# EAGLE library part DISP_MATRIX_8X8 (library dp_devices)
8x8 LED Matrix Mfr no: LD788BS-SS22 LD788BS-SS22 <http://www.jameco.com/webapp/wcs/stores/servlet/Product_10001_10001_2132349_-1>
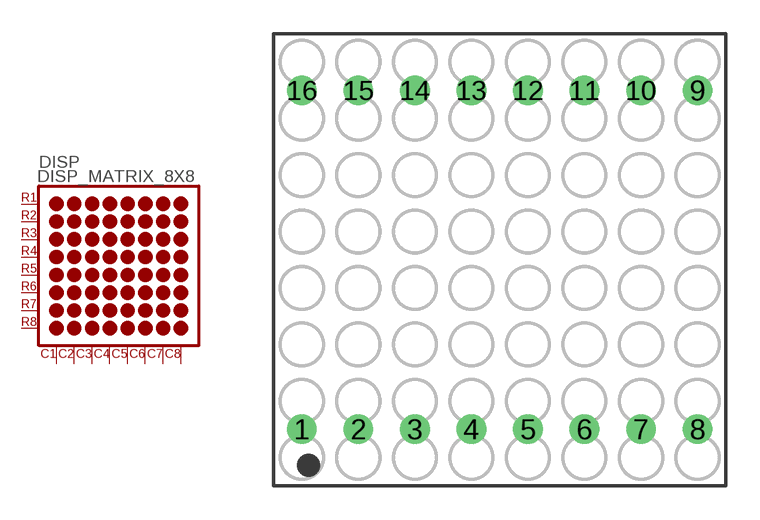
[diagram p129: symbol with the pads of DISP_8X8_MATRIX_2020; footprint DISP_8X8_MATRIX_2020]

Designator prefix DISP

## DISP_MATRIX_8X8  [DISP_8X8_MATRIX_2020]
1  R5
2  R7
3  C2
4  C3
5  R8
6  C5
7  R6
8  R3
9  R1
10  C4
11  C6
12  R4
13  C1
14  R2
15  C7
16  C8

## Footprint DISP_8X8_MATRIX_2020 (pad centres in mm)
Dimension: 20x20 mm
drill 0.8 round: 1 -8.75,-7.5; 2 -6.25,-7.5; 3 -3.75,-7.5; 4 -1.25,-7.5; 5 1.25,-7.5; 6 3.75,-7.5; 7 6.25,-7.5; 8 8.75,-7.5; 9 8.75,7.5; 10 6.25,7.5; 11 3.75,7.5; 12 1.25,7.5; 13 -1.25,7.5; 14 -3.75,7.5; 15 -6.25,7.5; 16 -8.75,7.5